# EAGLE library part 2X5_HEADER (library mkfab)
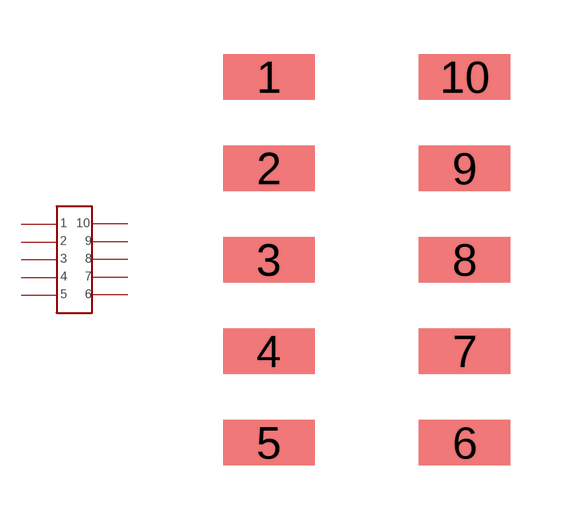
[diagram p2: symbol with the pads of 2X5_SMT; footprint 2X5_SMT]

Designator prefix -

## 2X5_HEADER  [2X5_SMT]
1  P$1
2  P$2
3  P$3
4  P$4
5  P$5
6  P$6
7  P$7
8  P$8
9  P$9
10  P$10

## Footprint 2X5_SMT (pad centres in mm)
2x5 SMT header, 0.1" spacing.
smd 2.54 x 1.27: 1 -2.718,5.08; 2 -2.718,2.54; 3 -2.718,0; 4 -2.718,-2.54; 5 -2.718,-5.08; 6 2.718,-5.08; 7 2.718,-2.54; 8 2.718,0; 9 2.718,2.54; 10 2.718,5.08